# Altium footprint library SOT95P280X145-3N.PcbLib: 1 footprints
Each footprint in its own frame and in the unit in brackets; x right, y up, seen from the top. Pads: shape width x height; smd on the part's side, far side on the other; paste and mask are expansions set on the pad; w line width, h text height; cw(c..) or ccw(c..) is an arc to the next point about the centre after c.
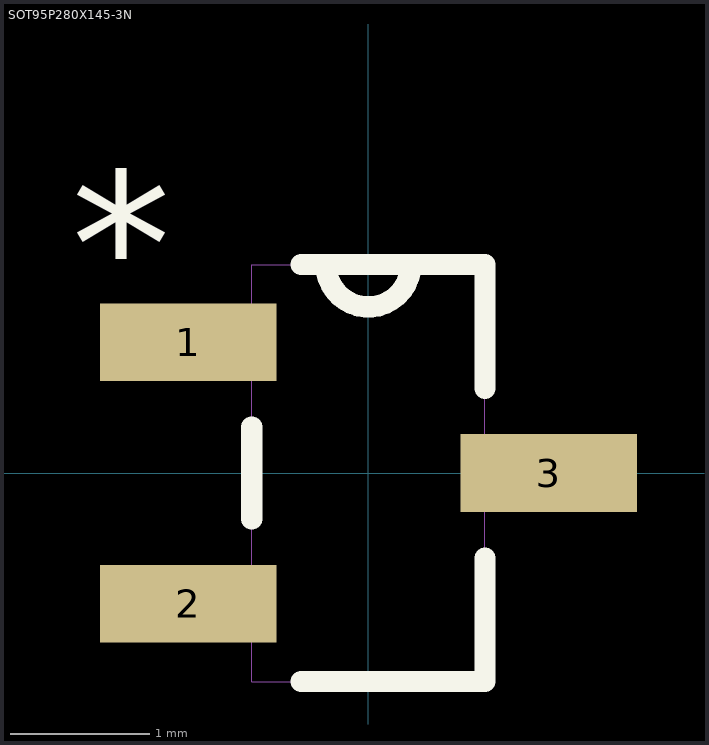
[diagram p0: the footprint, top view; thin cyan lines are the x and y axes]

## SOT95P280X145-3N [mil]
pads (3):
  rect 50x22 smd: 1(-51,37) 2(-51,-37) 3(51,0)
Top Overlay:
  lines w6: -33,-13 -33,13 ; -19,-59 33,-59 33,-24 ; -19,59 -12,59 ; 33,24 33,59 12,59 ; -12,59 ccw(c0,59) 12,59 ; -12,59 12,59
  text "*" at -84.13,44.24 h73.82
Mechanical 1:
  lines w0: -33,-47 -59,-47 -59,-28 -33,-28 ; -33,-47 -33,-28 ; -33,-47 -33,-59 33,-59 33,-10 ; -33,-28 -33,28 ; -33,28 -59,28 -59,47 -33,47 ; -33,28 -33,47 ; -33,47 -33,59 -12,59 ; -12,59 ccw(c0,59) 12,59 ; -12,59 12,59 ; 12,59 33,59 33,10 ; 33,-10 59,-10 59,10 33,10 ; 33,-10 33,10
  text "*" at -84.03,44.18 h73.82